# Altium footprint library AbraconASEM1_OSC.PcbLib: 1 footprints
Each footprint in its own frame and in the unit in brackets; x right, y up, seen from the top. Pads: shape width x height; smd on the part's side, far side on the other; paste and mask are expansions set on the pad; w line width, h text height; cw(c..) or ccw(c..) is an arc to the next point about the centre after c.
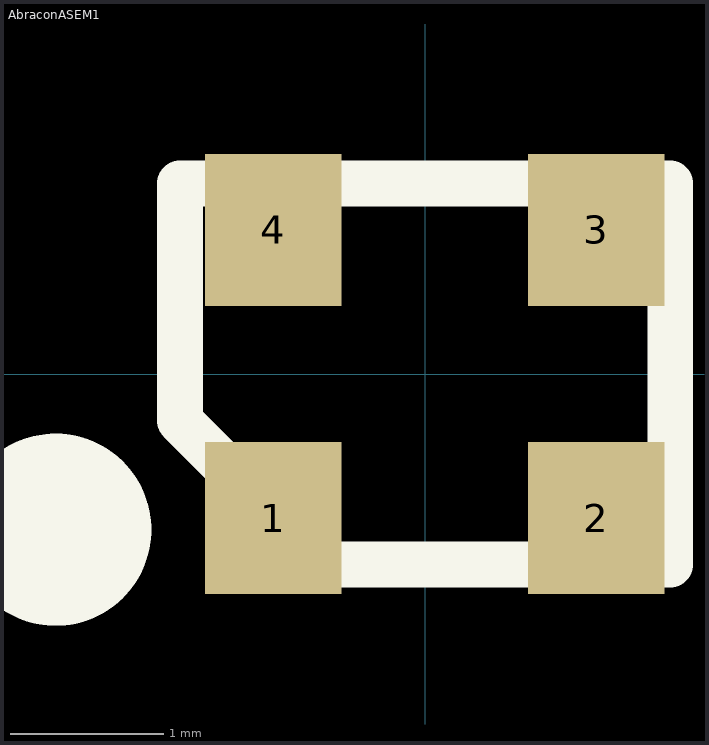
[diagram p0: the footprint, top view; thin cyan lines are the x and y axes]

## AbraconASEM1 [mil]
pads (5):
  rect 35x39 smd: 1(-39,-37) 2(44,-37) 3(44,37) 4(-39,37)
  rect 0.04x0.04 on Top Solder: 11(-44,3)
Top Overlay:
  circle w39.37: c-95,-40 r5
  lines w11.81: -63,-12 -63,49 63,49 63,-49 -26,-49 -63,-12
3D body "ASEM.STEP": height 16.14, standoff -17.32, extent -62.99,-49.21 63,49.22